# Altium footprint library 74651173R.PcbLib: 5 footprints
Each footprint in its own frame and in the unit in brackets; x right, y up, seen from the top. Pads: shape width x height; smd on the part's side, far side on the other; paste and mask are expansions set on the pad; w line width, h text height; cw(c..) or ccw(c..) is an arc to the next point about the centre after c.
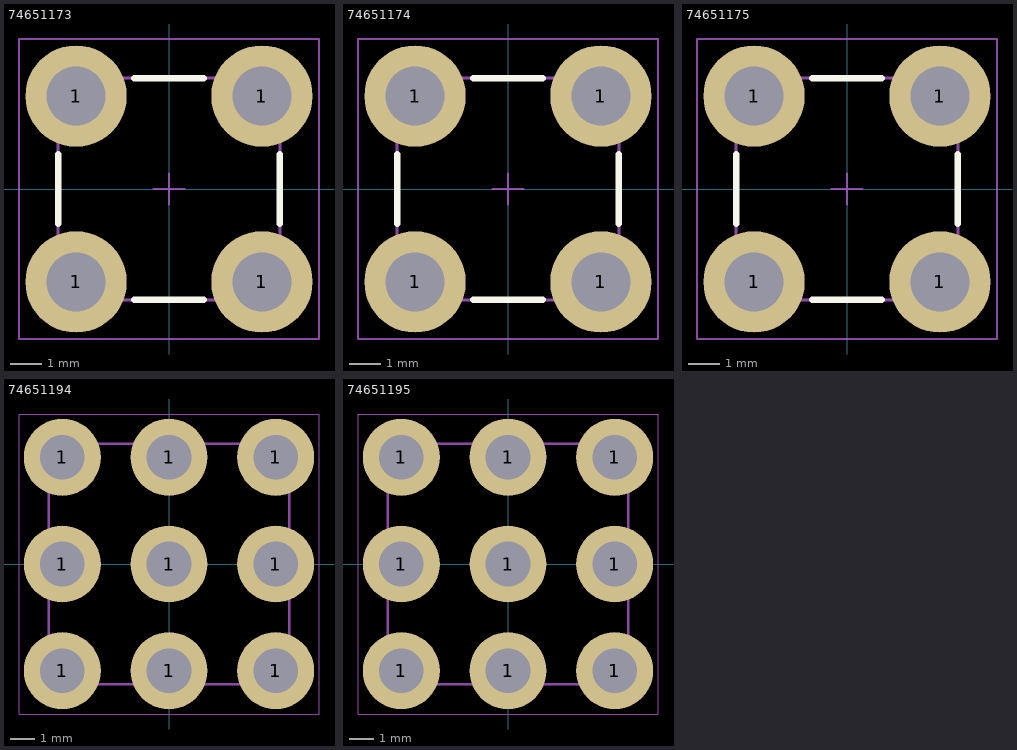
[diagram p0: the footprints below, top view; thin cyan lines are the x and y axes]

## 74651173 [mm] "Shank, THR, 4 pins, 7x7mm, M3, thread 5mm"
height 8.5
pads (4):
  round 3.2 hole 1.85: 1(-2.935,-2.935) 1(-2.935,2.935) 1(2.935,-2.935) 1(2.935,2.935)
Top Overlay:
  lines w0.2: -3.5,-1.1 -3.5,1.1 ; -1.1,-3.5 1.1,-3.5 ; -1.1,3.5 1.1,3.5 ; 3.5,-1.1 3.5,1.1
Top Paste:
  region: -2.935,1.385 -3.088,1.385 -3.387,1.445 -3.669,1.561 -3.923,1.731 -4.139,1.947 -4.309,2.201 -4.425,2.483 -4.485,2.782 -4.485,2.935 -4.485,3.088 -4.425,3.387 -4.309,3.669 -4.139,3.923 -3.923,4.139 -3.669,4.309 -3.387,4.425 -3.088,4.485 -2.935,4.485 -2.782,4.485 -2.483,4.425 -2.201,4.309 -1.947,4.139 -1.731,3.923 -1.561,3.669 -1.445,3.387 -1.385,3.088 -1.385,2.935 -1.385,2.782 -1.445,2.483 -1.561,2.201 -1.731,1.947 -1.947,1.731 -2.201,1.561 -2.483,1.445 -2.782,1.385
  region: 2.935,1.385 2.782,1.385 2.483,1.445 2.201,1.561 1.947,1.731 1.731,1.947 1.561,2.201 1.445,2.483 1.385,2.782 1.385,2.935 1.385,3.088 1.445,3.387 1.561,3.669 1.731,3.923 1.947,4.139 2.201,4.309 2.483,4.425 2.782,4.485 2.935,4.485 3.088,4.485 3.387,4.425 3.669,4.309 3.923,4.139 4.139,3.923 4.309,3.669 4.425,3.387 4.485,3.088 4.485,2.935 4.485,2.782 4.425,2.483 4.309,2.201 4.139,1.947 3.923,1.731 3.669,1.561 3.387,1.445 3.088,1.385
  region: -2.935,-4.485 -3.088,-4.485 -3.387,-4.425 -3.669,-4.309 -3.923,-4.139 -4.139,-3.923 -4.309,-3.669 -4.425,-3.387 -4.485,-3.088 -4.485,-2.935 -4.485,-2.782 -4.425,-2.483 -4.309,-2.201 -4.139,-1.947 -3.923,-1.731 -3.669,-1.561 -3.387,-1.445 -3.088,-1.385 -2.935,-1.385 -2.782,-1.385 -2.483,-1.445 -2.201,-1.561 -1.947,-1.731 -1.731,-1.947 -1.561,-2.201 -1.445,-2.483 -1.385,-2.782 -1.385,-2.935 -1.385,-3.088 -1.445,-3.387 -1.561,-3.669 -1.731,-3.923 -1.947,-4.139 -2.201,-4.309 -2.483,-4.425 -2.782,-4.485
  region: 2.935,-4.485 2.782,-4.485 2.483,-4.425 2.201,-4.309 1.947,-4.139 1.731,-3.923 1.561,-3.669 1.445,-3.387 1.385,-3.088 1.385,-2.935 1.385,-2.782 1.445,-2.483 1.561,-2.201 1.731,-1.947 1.947,-1.731 2.201,-1.561 2.483,-1.445 2.782,-1.385 2.935,-1.385 3.088,-1.385 3.387,-1.445 3.669,-1.561 3.923,-1.731 4.139,-1.947 4.309,-2.201 4.425,-2.483 4.485,-2.782 4.485,-2.935 4.485,-3.088 4.425,-3.387 4.309,-3.669 4.139,-3.923 3.923,-4.139 3.669,-4.309 3.387,-4.425 3.088,-4.485
Top Designator:
  text ".Designator" at -7.498,-0.5 h1.5
Top Component Outline:
  lines w0.1: -3.5,-3.5 -3.5,3.5 3.5,3.5 3.5,-3.5 -3.5,-3.5
Top 3D Body:
  lines w0.1: -3.5,-3.5 3.5,-3.5 3.5,3.5 -3.5,3.5 -3.5,-3.5
Top Courtyard:
  lines w0.05: -0.5,0 0.5,0 ; 0,-0.5 0,0.5 ; -4.735,-4.735 -4.735,4.735 4.735,4.735 4.735,-4.735 -4.735,-4.735
3D body "74651173.stp": height 8.5, standoff -2.5, extent -3.5,-3.5 3.5,3.5

## 74651174 [mm] "Shank, THR, 4 pins, 7x7mm, M4, thread 5mm"
height 8.5
pads (4):
  round 3.2 hole 1.85: 1(-2.935,-2.935) 1(-2.935,2.935) 1(2.935,-2.935) 1(2.935,2.935)
Top Overlay:
  lines w0.2: -3.5,-1.1 -3.5,1.1 ; -1.1,-3.5 1.1,-3.5 ; -1.1,3.5 1.1,3.5 ; 3.5,-1.1 3.5,1.1
Top Paste:
  region: 2.935,-4.485 2.782,-4.485 2.483,-4.425 2.201,-4.309 1.947,-4.139 1.731,-3.923 1.561,-3.669 1.445,-3.387 1.385,-3.088 1.385,-2.935 1.385,-2.782 1.445,-2.483 1.561,-2.201 1.731,-1.947 1.947,-1.731 2.201,-1.561 2.483,-1.445 2.782,-1.385 2.935,-1.385 3.088,-1.385 3.387,-1.445 3.669,-1.561 3.923,-1.731 4.139,-1.947 4.309,-2.201 4.425,-2.483 4.485,-2.782 4.485,-2.935 4.485,-3.088 4.425,-3.387 4.309,-3.669 4.139,-3.923 3.923,-4.139 3.669,-4.309 3.387,-4.425 3.088,-4.485
  region: -2.935,-4.485 -3.088,-4.485 -3.387,-4.425 -3.669,-4.309 -3.923,-4.139 -4.139,-3.923 -4.309,-3.669 -4.425,-3.387 -4.485,-3.088 -4.485,-2.935 -4.485,-2.782 -4.425,-2.483 -4.309,-2.201 -4.139,-1.947 -3.923,-1.731 -3.669,-1.561 -3.387,-1.445 -3.088,-1.385 -2.935,-1.385 -2.782,-1.385 -2.483,-1.445 -2.201,-1.561 -1.947,-1.731 -1.731,-1.947 -1.561,-2.201 -1.445,-2.483 -1.385,-2.782 -1.385,-2.935 -1.385,-3.088 -1.445,-3.387 -1.561,-3.669 -1.731,-3.923 -1.947,-4.139 -2.201,-4.309 -2.483,-4.425 -2.782,-4.485
  region: 2.935,1.385 2.782,1.385 2.483,1.445 2.201,1.561 1.947,1.731 1.731,1.947 1.561,2.201 1.445,2.483 1.385,2.782 1.385,2.935 1.385,3.088 1.445,3.387 1.561,3.669 1.731,3.923 1.947,4.139 2.201,4.309 2.483,4.425 2.782,4.485 2.935,4.485 3.088,4.485 3.387,4.425 3.669,4.309 3.923,4.139 4.139,3.923 4.309,3.669 4.425,3.387 4.485,3.088 4.485,2.935 4.485,2.782 4.425,2.483 4.309,2.201 4.139,1.947 3.923,1.731 3.669,1.561 3.387,1.445 3.088,1.385
  region: -2.935,1.385 -3.088,1.385 -3.387,1.445 -3.669,1.561 -3.923,1.731 -4.139,1.947 -4.309,2.201 -4.425,2.483 -4.485,2.782 -4.485,2.935 -4.485,3.088 -4.425,3.387 -4.309,3.669 -4.139,3.923 -3.923,4.139 -3.669,4.309 -3.387,4.425 -3.088,4.485 -2.935,4.485 -2.782,4.485 -2.483,4.425 -2.201,4.309 -1.947,4.139 -1.731,3.923 -1.561,3.669 -1.445,3.387 -1.385,3.088 -1.385,2.935 -1.385,2.782 -1.445,2.483 -1.561,2.201 -1.731,1.947 -1.947,1.731 -2.201,1.561 -2.483,1.445 -2.782,1.385
Top Designator:
  text ".Designator" at -7.498,-0.5 h1.5
Top Component Outline:
  lines w0.1: -3.5,-3.5 3.5,-3.5 3.5,3.5 -3.5,3.5 -3.5,-3.5
Top 3D Body:
  lines w0.1: -3.5,-3.5 -3.5,3.5 3.5,3.5 3.5,-3.5 -3.5,-3.5
Top Courtyard:
  lines w0.05: -0.5,0 0.5,0 ; 0,-0.5 0,0.5 ; -4.735,-4.735 4.735,-4.735 4.735,4.735 -4.735,4.735 -4.735,-4.735
3D body "74651174.stp": height 8.5, standoff -2.5, extent -3.5,-3.5 3.5,3.5

## 74651175 [mm] "Shank, THR, 4 pins, 7x7mm, M5, thread 7mm"
height 10.5
pads (4):
  round 3.2 hole 1.85: 1(-2.935,-2.935) 1(-2.935,2.935) 1(2.935,-2.935) 1(2.935,2.935)
Top Overlay:
  lines w0.2: -3.5,-1.1 -3.5,1.1 ; -1.1,-3.5 1.1,-3.5 ; -1.1,3.5 1.1,3.5 ; 3.5,-1.1 3.5,1.1
Top Paste:
  region: 2.935,-4.485 2.782,-4.485 2.483,-4.425 2.201,-4.309 1.947,-4.139 1.731,-3.923 1.561,-3.669 1.445,-3.387 1.385,-3.088 1.385,-2.935 1.385,-2.782 1.445,-2.483 1.561,-2.201 1.731,-1.947 1.947,-1.731 2.201,-1.561 2.483,-1.445 2.782,-1.385 2.935,-1.385 3.088,-1.385 3.387,-1.445 3.669,-1.561 3.923,-1.731 4.139,-1.947 4.309,-2.201 4.425,-2.483 4.485,-2.782 4.485,-2.935 4.485,-3.088 4.425,-3.387 4.309,-3.669 4.139,-3.923 3.923,-4.139 3.669,-4.309 3.387,-4.425 3.088,-4.485
  region: -2.935,-4.485 -3.088,-4.485 -3.387,-4.425 -3.669,-4.309 -3.923,-4.139 -4.139,-3.923 -4.309,-3.669 -4.425,-3.387 -4.485,-3.088 -4.485,-2.935 -4.485,-2.782 -4.425,-2.483 -4.309,-2.201 -4.139,-1.947 -3.923,-1.731 -3.669,-1.561 -3.387,-1.445 -3.088,-1.385 -2.935,-1.385 -2.782,-1.385 -2.483,-1.445 -2.201,-1.561 -1.947,-1.731 -1.731,-1.947 -1.561,-2.201 -1.445,-2.483 -1.385,-2.782 -1.385,-2.935 -1.385,-3.088 -1.445,-3.387 -1.561,-3.669 -1.731,-3.923 -1.947,-4.139 -2.201,-4.309 -2.483,-4.425 -2.782,-4.485
  region: 2.935,1.385 2.782,1.385 2.483,1.445 2.201,1.561 1.947,1.731 1.731,1.947 1.561,2.201 1.445,2.483 1.385,2.782 1.385,2.935 1.385,3.088 1.445,3.387 1.561,3.669 1.731,3.923 1.947,4.139 2.201,4.309 2.483,4.425 2.782,4.485 2.935,4.485 3.088,4.485 3.387,4.425 3.669,4.309 3.923,4.139 4.139,3.923 4.309,3.669 4.425,3.387 4.485,3.088 4.485,2.935 4.485,2.782 4.425,2.483 4.309,2.201 4.139,1.947 3.923,1.731 3.669,1.561 3.387,1.445 3.088,1.385
  region: -2.935,1.385 -3.088,1.385 -3.387,1.445 -3.669,1.561 -3.923,1.731 -4.139,1.947 -4.309,2.201 -4.425,2.483 -4.485,2.782 -4.485,2.935 -4.485,3.088 -4.425,3.387 -4.309,3.669 -4.139,3.923 -3.923,4.139 -3.669,4.309 -3.387,4.425 -3.088,4.485 -2.935,4.485 -2.782,4.485 -2.483,4.425 -2.201,4.309 -1.947,4.139 -1.731,3.923 -1.561,3.669 -1.445,3.387 -1.385,3.088 -1.385,2.935 -1.385,2.782 -1.445,2.483 -1.561,2.201 -1.731,1.947 -1.947,1.731 -2.201,1.561 -2.483,1.445 -2.782,1.385
Top Designator:
  text ".Designator" at -7.498,-0.5 h1.5
Top Component Outline:
  lines w0.1: -3.5,-3.5 3.5,-3.5 3.5,3.5 -3.5,3.5 -3.5,-3.5
Top 3D Body:
  lines w0.1: -3.5,-3.5 -3.5,3.5 3.5,3.5 3.5,-3.5 -3.5,-3.5
Top Courtyard:
  lines w0.05: -0.5,0 0.5,0 ; 0,-0.5 0,0.5 ; -4.735,-4.735 4.735,-4.735 4.735,4.735 -4.735,4.735 -4.735,-4.735
3D body "74651175.stp": height 10.5, standoff -2.5, extent -3.5,-3.5 3.5,3.5

## 74651194 [mm] "Shank, THR, 9 pins, 10x10mm, M4, thread 5mm"
height 8.5
pads (9):
  round 3.2 hole 1.85: 1(-4.435,-4.435) 1(-4.435,0) 1(-4.435,4.435) 1(0,-4.435) 1(0,0) 1(0,4.435) 1(4.435,-4.435) 1(4.435,0) 1(4.435,4.435)
Top Paste:
  drawing of 9 lines, arcs and shapes, not listed
Top Designator:
  text ".Designator" at -7.498,-0.5 h1.5
Top Component Outline:
  lines w0.1: -5,-5 5,-5 5,5 -5,5 -5,-5
Top 3D Body:
  lines w0.1: -5,-5 -5,5 5,5 5,-5 -5,-5
Top Courtyard:
  lines w0.05: -0.5,0 0.5,0 ; 0,-0.5 0,0.5 ; -6.235,-6.235 6.235,-6.235 6.235,6.235 -6.235,6.235 -6.235,-6.235
3D body "74651194.stp": height 8.5, standoff -2.5, extent -5,-5 5,5

## 74651195 [mm] "Shank, THR, 9 pins, 10x10mm, M5, thread 7mm"
height 10.5
pads (9):
  round 3.2 hole 1.85: 1(-4.435,-4.435) 1(-4.435,0) 1(-4.435,4.435) 1(0,-4.435) 1(0,0) 1(0,4.435) 1(4.435,-4.435) 1(4.435,0) 1(4.435,4.435)
Top Paste:
  drawing of 9 lines, arcs and shapes, not listed
Top Designator:
  text ".Designator" at -7.498,-0.5 h1.5
Top Component Outline:
  lines w0.1: -5,-5 -5,5 5,5 5,-5 -5,-5
Top 3D Body:
  lines w0.1: -5,-5 5,-5 5,5 -5,5 -5,-5
Top Courtyard:
  lines w0.05: -0.5,0 0.5,0 ; 0,-0.5 0,0.5 ; -6.235,-6.235 6.235,-6.235 6.235,6.235 -6.235,6.235 -6.235,-6.235
3D body "74651195.stp": height 10.5, standoff -2.5, extent -5,-5 5,5